# Altium schematic symbol library TMC2660C-PA.SchLib: 1 symbol
Pins are listed as number, name and electrical type; pins without a type are passive.

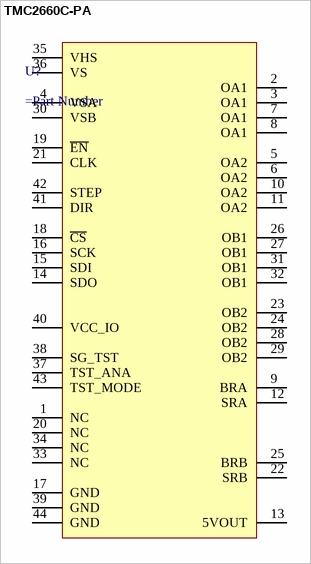
[diagram p0: symbol TMC2660C-PA]

## TMC2660C-PA
designator U?
=Description; Manufacturer: Trinamic; Manufacturer Part Number: TMC2660C-PA; Supplier: Newark; Supplier Part Number: 83AH3070; RoHS: Yes; Stock: 1170; Pricing: 1=10.47, 10=9.47, 25=9.03 (CAD)
pins: 1 NC, 2 OA1, 3 OA1, 4 VSA, 5 OA2, 6 OA2, 7 OA1, 8 OA1, 9 BRA, 10 OA2, 11 OA2, 12 SRA, 13 5VOUT, 14 SDO, 15 SDI, 16 SCK, 17 GND (power), 18 ~{CS}, 19 ~{EN}, 20 NC, 21 CLK, 22 SRB, 23 OB2, 24 OB2, 25 BRB, 26 OB1, 27 OB1, 28 OB2, 29 OB2, 30 VSB, 31 OB1, 32 OB1, 33 NC, 34 NC, 35 VHS (power), 36 VS (power), 37 TST_ANA, 38 SG_TST, 39 GND (power), 40 VCC_IO (power), 41 DIR, 42 STEP, 43 TST_MODE, 44 GND (power)